# Altium schematic symbol library VIA VT6212.SchLib: 1 symbol
Pins are listed as number, name and electrical type; pins without a type are passive.

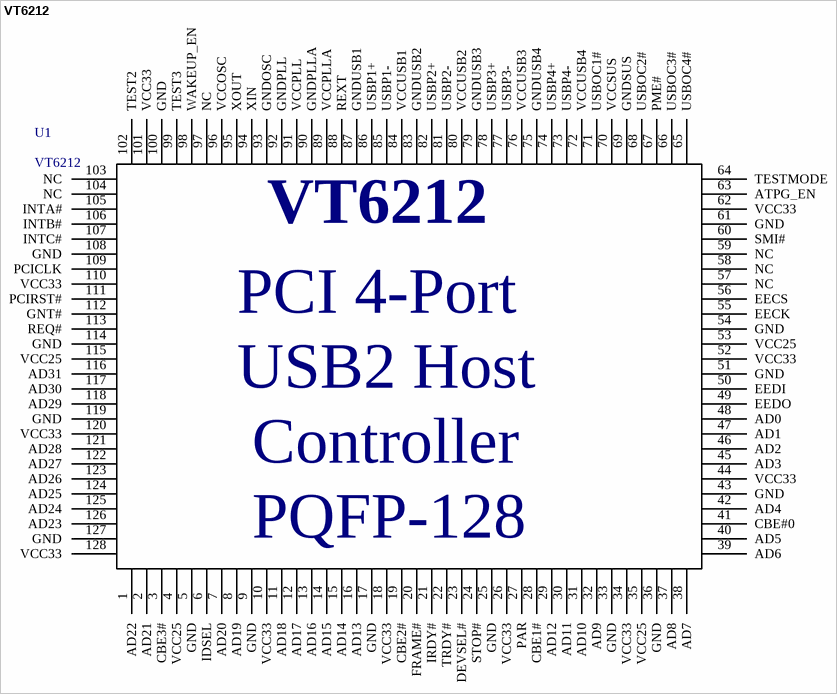
[diagram p0: symbol VT6212]

## VT6212
designator U1
VT6212 PCI 4-Port USB2 Host Controller PQFP-128
footprint NXP LQFP-144 SOT486-1 (TQFP, 144-Leads, Body 20.00x20.00mm, Pitch 0.50mm, IPC Medium Density)
pins: 1 AD22, 2 AD21, 3 CBE3#, 4 VCC25, 5 GND, 6 IDSEL, 7 AD20, 8 AD19, 9 GND, 10 VCC33, 11 AD18, 12 AD17, 13 AD16, 14 AD15, 15 AD14, 16 AD13, 17 GND, 18 VCC33, 19 CBE2#, 20 FRAME#, 21 IRDY#, 22 TRDY#, 23 DEVSEL#, 24 STOP#, 25 GND, 26 VCC33, 27 PAR, 28 CBE1#, 29 AD12, 30 AD11, 31 AD10, 32 AD9, 33 GND, 34 VCC33, 35 VCC25, 36 GND, 37 AD8, 38 AD7, 39 AD6, 40 AD5, 41 CBE#0, 42 AD4, 43 GND, 44 VCC33, 45 AD3, 46 AD2, 47 AD1, 48 AD0, 49 EEDO, 50 EEDI, 51 GND, 52 VCC33, 53 VCC25, 54 GND, 55 EECK, 56 EECS, 57 NC, 58 NC, 59 NC, 60 SMI#, 61 GND, 62 VCC33, 63 ATPG_EN, 64 TESTMODE, 65 USBOC4#, 66 USBOC3#, 67 PME#, 68 USBOC2#, 69 GNDSUS, 70 VCCSUS, 71 USBOC1#, 72 VCCUSB4, 73 USBP4-, 74 USBP4+, 75 GNDUSB4, 76 VCCUSB3, 77 USBP3-, 78 USBP3+, 79 GNDUSB3, 80 VCCUSB2, 81 USBP2-, 82 USBP2+, 83 GNDUSB2, 84 VCCUSB1, 85 USBP1-, 86 USBP1+, 87 GNDUSB1, 88 REXT, 89 VCCPLLA, 90 GNDPLLA, 91 VCCPLL, 92 GNDPLL, 93 GNDOSC, 94 XIN, 95 XOUT, 96 VCCOSC, 97 NC, 98 WAKEUP_EN, 99 TEST3, 100 GND, 101 VCC33, 102 TEST2, 103 NC, 104 NC, 105 INTA#, 106 INTB#, 107 INTC#, 108 GND, 109 PCICLK, 110 VCC33, 111 PCIRST#, 112 GNT#, 113 REQ#, 114 GND, 115 VCC25, 116 AD31, 117 AD30, 118 AD29, 119 GND, 120 VCC33, 121 AD28, 122 AD27, 123 AD26, 124 AD25, 125 AD24, 126 AD23, 127 GND, 128 VCC33
text: PCI 4-Port; USB2 Host; Controller; PQFP-128